# Altium footprint library TestClip.PcbLib: 3 footprints
Each footprint in its own frame and in the unit in brackets; x right, y up, seen from the top. Pads: shape width x height; smd on the part's side, far side on the other; paste and mask are expansions set on the pad; w line width, h text height; cw(c..) or ccw(c..) is an arc to the next point about the centre after c.
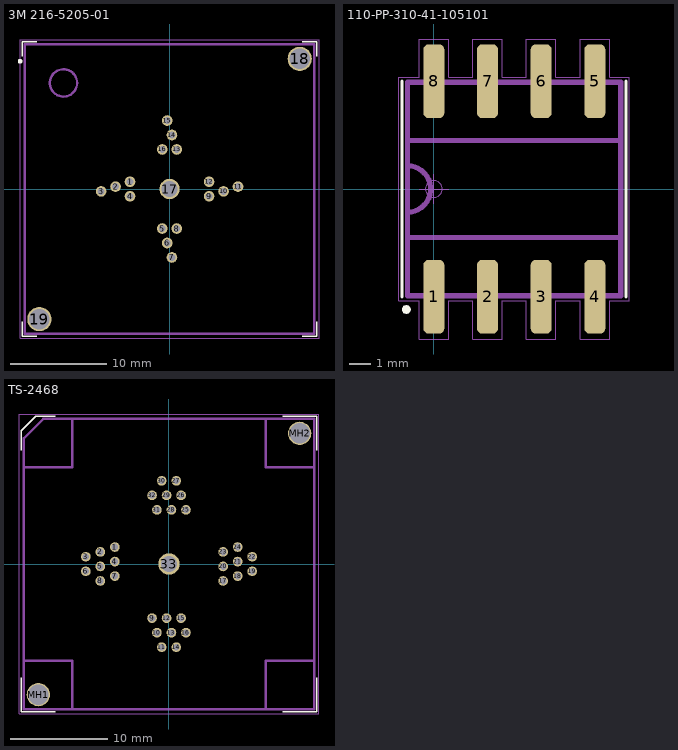
[diagram p0: the footprints below, top view; thin cyan lines are the x and y axes]

## 3M 216-5205-01 [mm] "3M™ Textool™ Open-Top Sockets for QFN Applications, 0.5 mm Pitch, 16 Pos, Even Row, 3x3 Pkg"
height 17
pads (19):
  round 1.1 hole 0.7 paste-2539.97 mask+0.1: 1(-4.1,0.75) 2(-5.6,0.25) 3(-7.1,-0.25) 4(-4.1,-0.75) 5(-0.75,-4.1) 6(-0.25,-5.6) 7(0.25,-7.1) 8(0.75,-4.1) 9(4.1,-0.75) 10(5.6,-0.25) 11(7.1,0.25) 12(4.1,0.75) 13(0.75,4.1) 14(0.25,5.6) 15(-0.25,7.1) 16(-0.75,4.1)
  round 2.1 hole 1.7 paste-2539.97 mask+0.1: 17(0,0)
  round 2.5 hole 2.1 paste-2539.97 mask+0.1: 18(13.5,13.5) 19(-13.5,-13.5)
Top Overlay:
  circle w0.25: c-15.5,13.25 r0.112
  lines w0.15: -15.25,-13.75 -15.25,-15.25 -13.75,-15.25 ; -15.25,13.75 -15.25,15.25 -13.75,15.25 ; 13.75,-15.25 15.25,-15.25 15.25,-13.75 ; 13.75,15.25 15.25,15.25 15.25,13.75
Top Assembly:
  circle w0.25: c-11,11 r1.414
  lines w0.25: -15,-15 15,-15 15,15 -15,15 -15,-15
  text ".Designator" at -3.378,-0.339 h1.5
Top Courtyard:
  circle w0.05: c0,0 r0.4
  lines w0.05: -0.7,0 0.7,0 ; 0,-0.7 0,0.7 ; -15.5,-15.5 15.5,-15.5 15.5,15.5 -15.5,15.5 -15.5,-15.5
3D body "216-5205-01.STEP": height 17, standoff -3, extent -15,-15 15,15

## 110-PP-310-41-105101 [mm] "DIP SMT SOCKET Pitch 2.54mm 8 Poles Width 7.62mm"
height 5.6
pads (8):
  rrect50% 1x3.5 smd: 1(0,-5.1) 2(2.54,-5.1) 3(5.08,-5.1) 4(7.62,-5.1) 5(7.62,5.1) 6(5.08,5.1) 7(2.54,5.1) 8(0,5.1)
Top Overlay:
  region: -1.5,-5.7 -1.5,-5.74 -1.47,-5.813 -1.413,-5.87 -1.34,-5.9 -1.3,-5.9 -1.26,-5.9 -1.187,-5.87 -1.13,-5.813 -1.1,-5.74 -1.1,-5.7 -1.1,-5.66 -1.13,-5.587 -1.187,-5.53 -1.26,-5.5 -1.3,-5.5 -1.34,-5.5 -1.413,-5.53 -1.47,-5.587 -1.5,-5.66
  lines w0.15: -1.5,-5.1 -1.5,5.1 ; 9.1,-5.1 9.1,5.1
Top Assembly:
  lines w0.25: -1.25,-2.3 8.851,-2.3 ; -1.25,-1.1 ccw(c-1.25,0) -1.25,1.1 ; -1.25,2.3 8.851,2.3 ; -1.25,-5.05 8.85,-5.05 8.85,5.05 -1.25,5.05 -1.25,-5.05
  text ".Designator" at 1,-0.218 h1.5
Top Courtyard:
  circle w0.05: c0,0 r0.4
  lines w0.05: -0.7,0 0.7,0 ; 0,-0.7 0,0.7 ; -0.7,-5.3 -1.65,-5.3 -1.65,5.3 -0.7,5.3 ; -0.7,-5.3 -0.7,-5.3 ; -0.7,-5.3 -0.7,-7.1 0.7,-7.1 0.7,-5.3 1.84,-5.3 1.84,-7.1 3.24,-7.1 3.24,-5.3 4.38,-5.3 4.38,-7.1 5.78,-7.1 5.78,-5.3 6.92,-5.3 6.92,-7.1 8.32,-7.1 8.32,-5.3 9.25,-5.3 9.25,5.3 8.32,5.3 8.32,7.1 6.92,7.1 6.92,5.3 5.78,5.3 5.78,7.1 4.38,7.1 4.38,5.3 3.24,5.3 3.24,7.1 1.84,7.1 1.84,5.3 0.7,5.3 0.7,7.1 -0.7,7.1 -0.7,5.3 ; -0.7,5.3 -0.7,5.3
3D body "110-PP-310-41-105101.STEP": height 5.6, standoff 0, extent -1.24,-6.13 8.86,6.13

## TS-2468 [mm] "M™ Textool™ Open-Top Sockets for QFN Applications, 0.5 mm Pitch, 32 Pos, Even Row, 5x5 Pkg"
height 17
pads (35):
  round 1 hole 0.7: 1(-5.6,1.75) 2(-7.1,1.25) 3(-8.6,0.75) 4(-5.6,0.25) 5(-7.1,-0.25) 6(-8.6,-0.75) 7(-5.6,-1.25) 8(-7.1,-1.75) 9(-1.75,-5.6) 10(-1.25,-7.1) 11(-0.75,-8.6) 12(-0.25,-5.6) 13(0.25,-7.1) 14(0.75,-8.6) 15(1.25,-5.6) 16(1.75,-7.1) 17(5.6,-1.75) 18(7.1,-1.25) 19(8.6,-0.75) 20(5.6,-0.25) 21(7.1,0.25) 22(8.6,0.75) 23(5.6,1.25) 24(7.1,1.75) 25(1.75,5.6) 26(1.25,7.1) 27(0.75,8.6) 28(0.25,5.6) 29(-0.25,7.1) 30(-0.75,8.6) 31(-1.25,5.6) 32(-1.75,7.1)
  round 2.2 hole 1.7: 33(0,0)
  round 2.4 hole 2.1 unplated: MH1(-13.5,-13.5) MH2(13.5,13.5)
Top Overlay:
  lines w0.15: -15.25,-11.75 -15.25,-15.25 -11.75,-15.25 ; -15.25,11.75 -15.25,13.75 -13.75,15.25 -11.75,15.25 ; 11.75,-15.25 15.25,-15.25 15.25,-11.75 ; 11.75,15.25 15.25,15.25 15.25,11.75
Top Assembly:
  lines w0.25: -15,-10 -10,-10 -10,-15 ; -15,10 -10,10 -10,15 ; 10,-15 10,-10 15,-10 ; 10,15 10,10 15,10 ; -15,-15 -15,13 -13,15 15,15 15,-15 -15,-15
  text ".Designator" at -3.25,2.282 h1.5
Top Courtyard:
  circle w0.05: c0,0 r0.4
  lines w0.05: -0.7,0 0.7,0 ; 0,-0.7 0,0.7 ; -15.5,-15.5 15.5,-15.5 15.5,15.5 -15.5,15.5 -15.5,-15.5
3D body "232-5205-01_parasolid.x_t": height 16.5, standoff -5.4, extent -15,-15 15,15